# EAGLE library part USBLC6-2P6 (library USBLC6-2P6)
Check availability <https://pricing.snapeda.com/parts/USBLC6-2P6/STMicroelectronics/view-part?ref=eda>
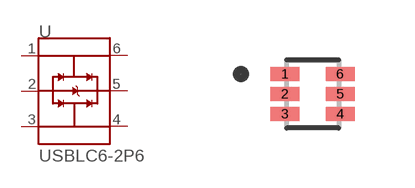
[diagram p0: symbol with the pads of SOT50P160X60-6N; footprint SOT50P160X60-6N]

Designator prefix U

## USBLC6-2P6 (Availability: In Stock; Check_prices: https://www.snapeda.com/parts/USBLC6-2P6/STMicroelectronics/view-part/?ref=eda; Description: 17V Clamp 5A (8/20µs) Ipp Tvs Diode Surface Mount SOT-666; MF: STMicroelectronics; MP: USBLC6-2P6; Package: SOT-666 STMicroelectronics; Price: None; SnapEDA_Link: https://www.snapeda.com/parts/USBLC6-2P6/STMicroelectronics/view-part/?ref=snap)  [SOT50P160X60-6N]
1  I/O1_1
2  GND  pwr
3  I/O2_1
4  I/O2_2
5  VBUS  pwr
6  I/O1_2

## Footprint SOT50P160X60-6N (pad centres in mm)
smd 0.75 x 0.35: 1 -0.69,0.5; 2 -0.69,0; 3 -0.69,-0.5; 4 0.69,-0.5; 5 0.69,0; 6 0.69,0.5